# Altium footprint library Voltage Regulators.PcbLib: 17 footprints (part 2 of 2)
Each footprint in its own frame and in the unit in brackets; x right, y up, seen from the top. Pads: shape width x height; smd on the part's side, far side on the other; paste and mask are expansions set on the pad; w line width, h text height; cw(c..) or ccw(c..) is an arc to the next point about the centre after c.
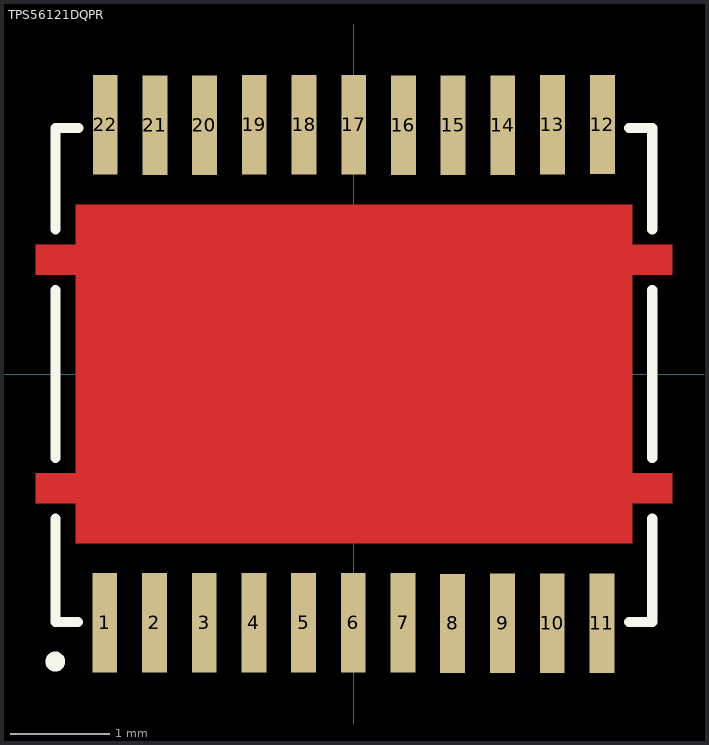
[diagram p1: the footprint, top view; thin cyan lines are the x and y axes]

## TPS56121DQPR [mm] "LSON-CLIP-22-EP(5x6)"
pads (22):
  rect 0.25x1 smd: 1(-2.502,-2.502) 2(-2.002,-2.502) 3(-1.502,-2.502) 4(-1.002,-2.502) 5(-0.502,-2.502) 6(-0.002,-2.502) 7(0.498,-2.502) 8(0.996,-2.509) 9(1.5,-2.506) 10(1.998,-2.508) 11(2.498,-2.508) 12(2.502,2.509) 13(2.001,2.505) 14(1.501,2.504) 15(1.002,2.504) 16(0.501,2.504) 17(0.002,2.505) 18(-0.498,2.505) 19(-0.998,2.505) 20(-1.5,2.502) 21(-1.998,2.503) 22(-2.498,2.505)
Top Layer:
  region: -2.795,-1.6 -2.795,-1.3 -3.195,-1.3 -3.195,-1 -2.795,-1 -2.795,1 -3.195,1 -3.195,1.3 -2.795,1.3 -2.795,1.7 2.805,1.7 2.805,1.3 3.205,1.3 3.205,1 2.805,1 2.805,-1 3.205,-1 3.205,-1.3 2.805,-1.3 2.805,-1.7 -2.795,-1.7
Top Overlay:
  circle w0.1: c-3,-2.892 r0.05
  lines w0.102: -2.996,-1.455 -2.996,-2.493 -2.772,-2.493 ; -2.996,-0.845 -2.996,0.063 ; -2.996,0.007 -2.996,0.845 ; -2.996,1.455 -2.996,2.476 -2.768,2.476 ; 2.768,-2.493 3.004,-2.493 3.004,-1.455 ; 2.772,2.476 3.004,2.476 3.004,1.455 ; 3.004,-0.845 3.004,0.845
Top Paste:
  region: -2.795,-1.6 -2.795,-1.3 -3.195,-1.3 -3.195,-1 -2.795,-1 -2.795,1 -3.195,1 -3.195,1.3 -2.795,1.3 -2.795,1.7 2.805,1.7 2.805,1.3 3.205,1.3 3.205,1 2.805,1 2.805,-1 3.205,-1 3.205,-1.3 2.805,-1.3 2.805,-1.7 -2.795,-1.7
Top Solder:
  region: -2.795,-1.6 -2.795,-1.3 -3.195,-1.3 -3.195,-1 -2.795,-1 -2.795,1 -3.195,1 -3.195,1.3 -2.795,1.3 -2.795,1.7 2.805,1.7 2.805,1.3 3.205,1.3 3.205,1 2.805,1 2.805,-1 3.205,-1 3.205,-1.3 2.805,-1.3 2.805,-1.7 -2.795,-1.7
3D body "TPS56121DQPR.STEP": height 1.45, standoff -0.05, extent -2.998,-2.495 3.002,2.505